# Altium schematic symbol library Schlib1.SchLib: 30 symbols
Pins are listed as number, name and electrical type; pins without a type are passive.

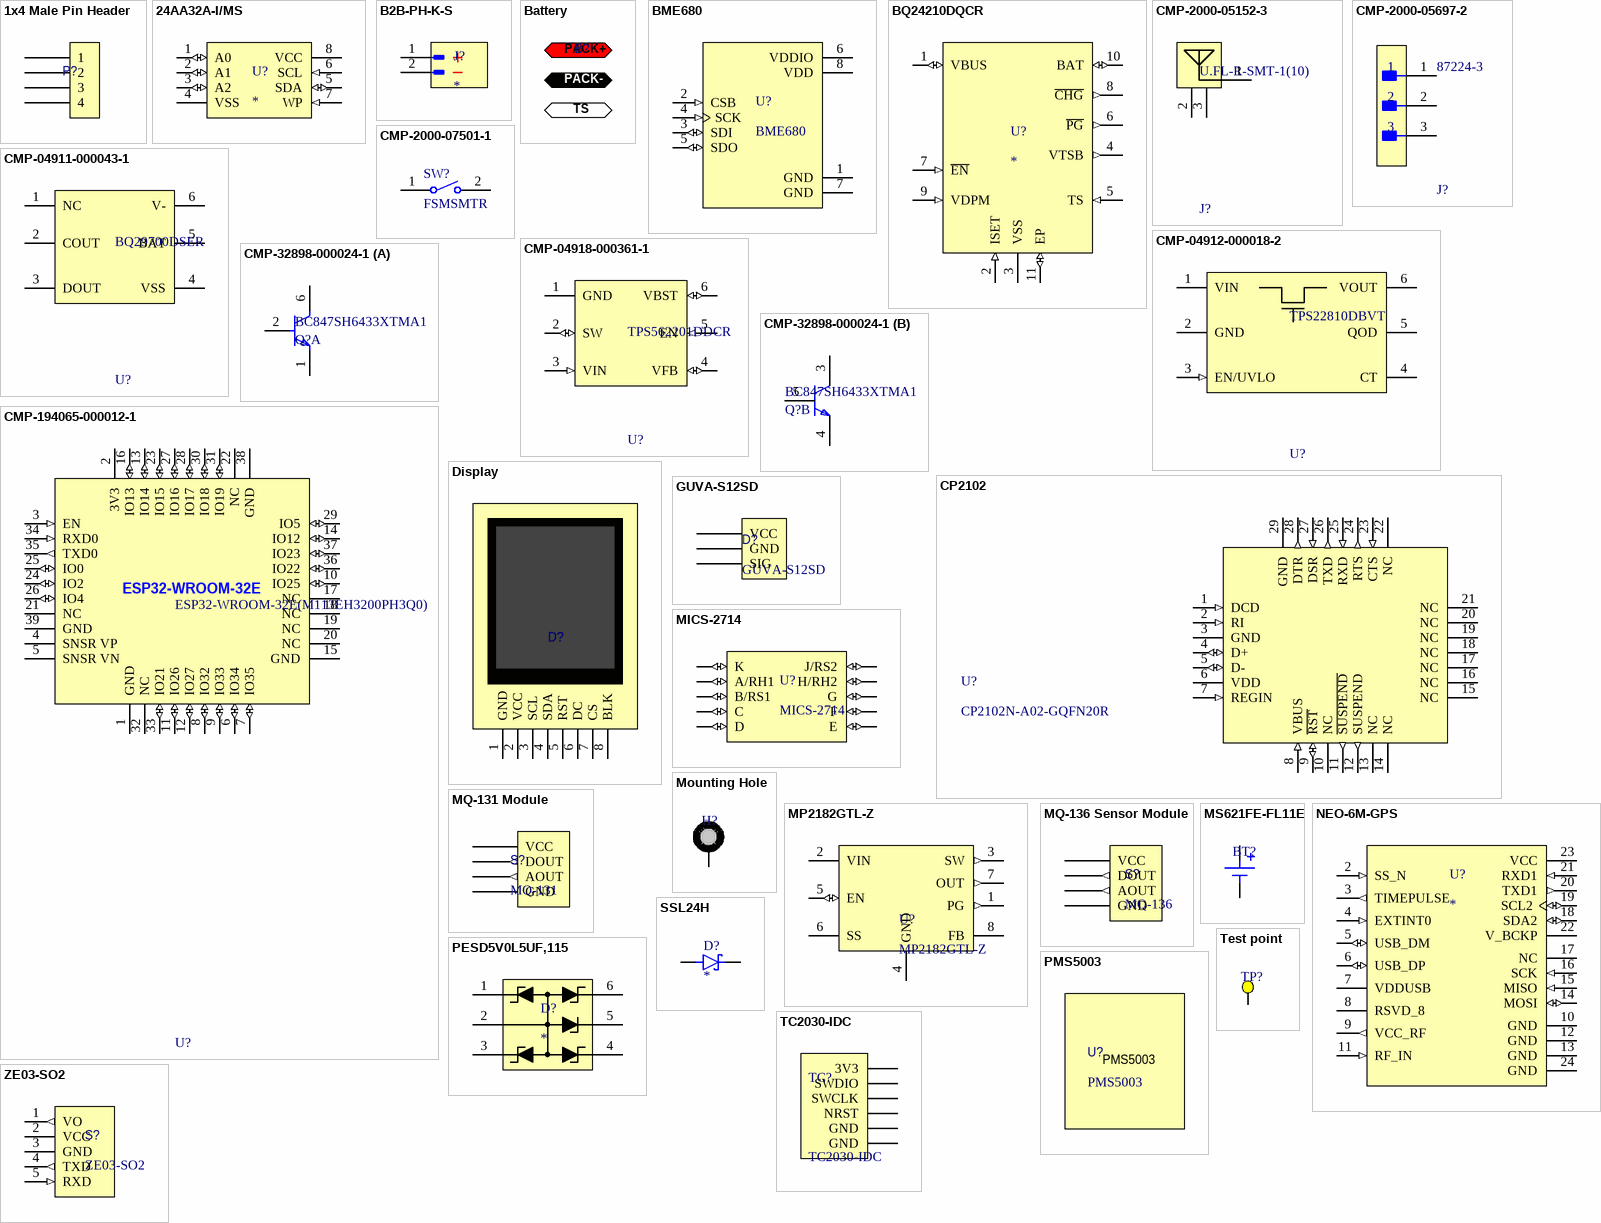
[diagram p0: symbols 1x4 Male Pin Header to ZE03-SO2]

## 1x4 Male Pin Header
designator P?, comment Pin Header  (value not drawn)
1x4 Male Pin Header
footprint 1x4 Pin Header Male
pins: 1, 2, 3, 4

## 24AA32A-I/MS
designator U?
MF: {'manufacturer': u'Microchip Technology'}; MP: 24AA32A-I/MS; Package: None; Price: None; Value: *; Availability: Unavailable
footprint SOP65P490X110-8N
pins: 1 A0 (io), 2 A1 (io), 3 A2 (io), 4 VSS (power), 5 SDA (io), 6 SCL (in), 7 WP (in), 8 VCC (power)

## B2B-PH-K-S
designator J?
MF: {'manufacturer': u'JST Sales'}; MP: B2B-PH-K-S; Package: None; Price: None; Value: *; Availability: Unavailable
footprint JST_B2B-PH-K-S
pins: 1, 2

## Battery
designator B?
1000 mAh
footprint 1000 mAh battery
pins: ?1, ?2, ?3
text: PACK+; PACK-; TS

## BME680
designator U?
Gas, Humidity, Pressure, Temperature Sensor I2C, SPI Output; MF: {'manufacturer': u'Bosch Sensortec'}; Package: None; Price: None; Value: *; MP: BME680; Availability: Unavailable
footprint PSON80P300X300X100-8N
pins: 1 GND (power), 2 CSB (in), 3 SDI (io), 4 SCK (in), 5 SDO (io), 6 VDDIO (power), 7 GND (power), 8 VDD (power)

## BQ24210DQCR
designator U?
MF: {'manufacturer': u'Texas Instruments'}; MP: BQ24210DQCR; Package: None; Price: None; Value: *; Availability: Unavailable
footprint SON50P300X200X80-11N
pins: 1 VBUS (io), 2 ISET (in), 3 VSS (power), 4 VTSB (out), 5 TS (in), 6 ~{PG} (out), 7 ~{EN} (in), 8 ~{CHG} (out), 9 VDPM (in), 10 BAT (io), 11 EP (io)

## CMP-2000-05152-3
designator J?, comment U.FL-R-SMT-1(10)
CONN U.FL RCPT STR 50 OHM SMD; Max Frequency: 6GHz; Connector Type: Coaxial; Body Plating: Silver; Body Material: Bronze; Impedance: 50R; Dielectric Material: Polymer; Insulation Resistance: 500MR; Gender: Male; Packaging: Cut Tape; Length: 3mm; Package Quantity: 2500; Termination: Solder; Lead Free: Lead Free; Series: U.FL; Min Operating Temperature: -40°C; Fastening Type: Snap; Contact Material: Brass; Orientation: Straight; Wire/Cable Type: Coaxial; Frequency: 6GHz; Contact Plating: Gold; Depth: 3.1mm; Weight: 0.001764oz; Max Operating Temperature: 90°C; Radiation Hardening: No; REACH SVHC: No SVHC; Mount: Surface Mount; Housing Color: Beige
footprint FP-U_FL-R-SMT-1_10-MFG
pins: 1 SIG, 2 GND (power), 3 GND (power)

## CMP-2000-05697-2
designator J?, comment 87224-3
CONN HEADER VERT 3POS 2.54MM; Number of Positions: 3; Gasket: No (Without); High Speed Serial Data Connector: No; Current Rating: 3A; Contact Post Length: 0.125inch; PCB Thickness: 1.397mm; PCB Mount Retention: Without; Connector Type: Plug; Approvals: CSA; PCB Mounting Orientation: Vertical; Pitch: 2.54mm; Mating Alignment: No (Without); Housing Color: Black; Contact Gender: Male; Length: 7.21mm; Max Operating Temperature: 105°C; Strain Relief: No (Without); Contact Material: Bronze; Row Spacing: 2.54mm; Series: AMPMODU MOD II; Board Standoff: No (Without); Package Quantity: 520; Radiation Hardening: No; Contact Protection: No (Without); Stabilizers: No (Without); Number of Rows: 1; Contact Mating Length: 8.08mm; Contact Shape: Square; Depth: 2.54mm; Contact Current Rating: 3A; Flammability Rating: UL94 V-0; Packaging: Carton; Number of Contacts: 3; Orientation: Straight; Mount: Through Hole; Keyed: No; Contact Type: Male Pin; Housing Material: Thermoplastic; High Temperature Housing: No; ELV: Compliant; Contact Plating: Gold; Termination: Through Hole; Selectively Loaded: No (Without); Lead Free: Lead Free; Min Operating Temperature: -65°C; Mating Connector Lock: No (Without); Color: Black; RoHS Compliant: Yes
footprint FP-87224-3-MFG
pins: 1, 2, 3

## CMP-2000-07501-1
designator SW?, comment FSMSMTR
FSMSM Push Button Switch, 50 mA, -35 to 85 degC, 2-Pin SMD, RoHS, Tape and Reel; Manufacturer: TE Connectivity; Voltage Rating (DC): 24V; Electrical Life: 20000Cycles; Operating Force: 180gf; Switch Travel: 0.25mm; Contact Current Rating: 50mA; Case\/Package: SMD/SMT; Actuator Length: 1.07mm; Throw Configuration: SPST; Actuator Material: Polyamide; Contact Resistance: 100mOhm; Illumination Type: Illuminated; Max Voltage Rating (DC): 12V; Manufacturer URL: http://www.te.com/; Lead Free: LeadFree; Packaging: TapeandReel; Min Operating Temperature: -35degC; Mechanical Life: 20000Cycles; Mount: SurfaceMount; REACH SVHC: Unknown; Package Quantity: 1800; Package Reference: FSMSMTR; RoHSCompliant: true; Max Operating Temperature: 85degC; Orientation: Straight; ELV: Compliant; Datasheet URL: http://www.te.com/commerce/DocumentDelivery/DDEController?Action=showdoc&DocId=Customer+Drawing%7F1437566-3%7FC2%7Fpdf%7FEnglish%7FENG_CD_1437566-3_C2_1437566_3_1_c.dwg.pdf%7F1437566-4; Package Description: 2-Pin Surface Mount Device, Body 6 x 3.5 mm, Pitch 9.19 mm; Current Rating: 50mA; Contact Plating: Silver; Termination: GullWing; Datasheet Version: Rev. C2, 08/2014; Contact Material: Brass; Mounting Technology: SurfaceMount
footprint TECO-FSMSMTR_V (SMD, 2-Leads, Body 6x3.5mm, Pitch 9.19mm)
pins: 1, 2

## CMP-04911-000043-1
designator U?, comment BQ29700DSER
IC LITHIUM BATT PROTECT 6-SON; Number of Cells: 1; Fault Protection: Over Current; Operating Supply Voltage: 8V; Packaging: Tape and Reel; RoHS Compliant: Yes; Contact Plating: Gold; Lead Free: Lead Free; Min Operating Temperature: -40°C; Number of Pins: 6; Max Operating Temperature: 85°C; Package Quantity: 3000; Mount: Surface Mount; Weight: 0.000342oz
footprint FP-DSE0006A-IPC_A
pins: 1 NC, 2 COUT, 3 DOUT, 4 VSS (power), 5 BAT (power), 6 V-

## CMP-04912-000018-2
designator U?, comment TPS22810DBVT
IC PWR SWITCH N-CHAN 1:1 SOT23-6; Output Configuration: High Side; Interface: On/Off; Number of Outputs: 1; Max Output Current: 2A; Fault Protection: Over Temperature; Min Operating Temperature: -40°C; Packaging: Cut Tape; Max Operating Temperature: 105°C; Case/Package: SOT-23-6; Number of Channels: 1
footprint FP-DBV0006A-IPC_A
pins: 1 VIN (power), 2 GND (power), 3 EN/UVLO (in), 4 CT, 5 QOD, 6 VOUT

## CMP-04918-000361-1
designator U?, comment TPS562201DDCR
IC REG BUCK ADJ 2A TSOT23-6; Switching Frequency: 580kHz; Max Input Voltage: 17V; Number of Outputs: 1; Output Voltage: 7V; Output Type: Adjustable; Quiescent Current: 400uA; Min Input Voltage: 4.5V; Mount: Surface Mount; Max Operating Temperature: 125°C; Lead Free: Lead Free; Operating Supply Voltage: 17V; Number of Pins: 6; RoHS Compliant: Yes; Contact Plating: Tin; Min Operating Temperature: -40°C; Case/Package: SOT; Max Output Current: 2A
footprint FP-DDC0006A-IPC_A
pins: 1 GND (power), 2 SW (io), 3 VIN (in), 4 VFB (io), 5 EN (in), 6 VBST (io)

## CMP-32898-000024-1
designator Q?, comment BC847SH6433XTMA1
TRANS 2NPN 45V 0.1A SOT363; Collector-emitter Voltage-Max: 600mV; Max Collector Current: 100mA; Polarity: NPN; Emitter Base Voltage (VEBO): 6V; Max Power Dissipation: 250mW; Transition Frequency: 250MHz; Collector Base Voltage (VCBO): 50V; Number of Elements: 2; RoHS Compliant: Yes; Max Breakdown Voltage: 45V; Contact Plating: Tin; Package Quantity: 10000; Series: -; Case/Package: SOT-363-6; Height: 0.8mm; Number of Pins: 6; Collector Emitter Voltage (VCEO): 45V; Radiation Hardening: No; Packaging: Tape and Reel; Frequency: 250MHz; Mount: Surface Mount; Collector Emitter Saturation Voltage: 600mV; Min Operating Temperature: -65°C; Max Frequency: 250MHz; Width: 1.25mm; Length: 2mm; Collector Emitter Breakdown Voltage: 45V; Max Operating Temperature: 150°C; Power Dissipation: 250mW
footprint FP-PG-SOT363-6-IPC_A
part A pins: 1 E1, 2 B1, 6 C1
part B pins: 3 C2, 4 E2, 5 B2

## CMP-194065-000012-1
designator U?, comment ESP32-WROOM-32E(M113EH3200PH3Q0)
RX TXRX MOD WIFI TRACE ANT SMD; Supplier 1: Digikey; Supplier Part Number 1: 1904-ESP32-WROOM-32E(M113EH3200PH3Q0)TR-ND
footprint FP-ESP32-WROOM-32E_M113EH-MFG
pins: 1 GND (power), 2 3V3 (power), 3 EN (in), 4 SNSR VP, 5 SNSR VN, 6 IO34 (io), 7 IO35 (io), 8 IO32 (io), 9 IO33 (io), 10 IO25 (io), 11 IO26 (io), 12 IO27 (io), 13 IO14 (io), 14 IO12 (io), 15 GND (power), 16 IO13 (io), 17 NC, 18 NC, 19 NC, 20 NC, 21 NC, 22 NC, 23 IO15 (io), 24 IO2 (io), 25 IO0 (io), 26 IO4 (io), 27 IO16 (io), 28 IO17 (io), 29 IO5 (io), 30 IO18 (io), 31 IO19 (io), 32 NC, 33 IO21 (io), 34 RXD0 (in), 35 TXD0 (out), 36 IO22 (io), 37 IO23 (io), 38 GND (power), 39 GND (power)
text: ESP32-WROOM-32E

## CP2102
designator U?, comment CP2102N-A02-GQFN20R
USB Bridge, USB to UART USB 2.0 UART Interface 20-QFN (3x3); MF: {'manufacturer': u'Silicon Labs'}; MP: CP2102; Package: None; Price: None; Value: *; Availability: Unavailable; Supplier 1: Digikey; Supplier Part Number 1: 336-5886-1-ND
footprint QFN50P500X500X100-29N
pins: 1 DCD (in), 2 RI (in), 3 GND (power), 4 D+ (io), 5 D- (io), 6 VDD (power), 7 REGIN (in), 8 VBUS (in), 9 ~{RST} (io), 10 NC, 11 ~{SUSPEND} (out), 12 SUSPEND (out), 13 NC, 14 NC, 15 NC, 16 NC, 17 NC, 18 NC, 19 NC, 20 NC, 21 NC, 22 NC, 23 CTS (in), 24 RTS (out), 25 RXD (in), 26 TXD (out), 27 DSR (in), 28 DTR (out), 29 GND (power)

## Display
designator D?, comment 1.54 Inch TFT  (value not drawn)
1.54 inch TFT Display 1.54" LCD Screen Module 240*240 240x240 SPI interface ST7789 Driver Board; ComponentLink1Description: Robotistan; ComponentLink1URL: https://www.aliexpress.us/item/3256803622674686.html?gatewayAdapt=glo2usa4itemAdapt
footprint 1.54 Inch Display
pins: 1 GND, 2 VCC, 3 SCL, 4 SDA, 5 RST, 6 DC, 7 CS, 8 BLK

## GUVA-S12SD
designator D?
Photodiode 2-SMD, J-Lead; Manufacturer: Genicom Co., Ltd.; Color - Enhanced: Ultraviolet (UV); Spectral Range: 240nm ~ 370nm; Diode Type: Schottky; Responsivity @ nm: 0.14 A/W @ 350nm; Voltage - DC Reverse (Vr) (Max): 5 V; Manufacturer Product Number: GUVA-S12SD; DigiKey Part Number: 2096-GUVA-S12SDTR-ND; Operating Temperature: -30°C ~ 85°C; Supplier 1: Digikey; Supplier Part Number 1: 2096-GUVA-S12SDCT-ND
footprint GUVA-S12SD (SENSOR PHOTODIODE 2SMD)
pins: 1 VCC, 2 GND, 3 SIG

## MICS-2714
designator U?
Gas sensor for Nitrogen Dioxide; MF: sgx sensors; SnapEDA_Link: https://www.snapeda.com/parts/MICS-2714/Sensata-BEI+Sensors/view-part/?ref=snap; Package: None; Value: *; MP: MICS-2714; Check_prices: https://www.snapeda.com/parts/MICS-2714/Sensata-BEI+Sensors/view-part/?ref=eda
footprint MICS-SMD10
pins: A A/RH1 (io), B B/RS1 (io), C (io), D (io), E (io), F (io), G (io), H H/RH2 (io), J J/RS2 (io), K (io)

## Mounting Hole
designator H?  (value not drawn)
footprint Mounting Hole
pins: 1

## MP2182GTL-Z
designator U?
Buck Switching Regulator IC Positive Adjustable 0.6V 1 Output 2A SOT-583; Mfr_Name: Monolithic Power Systems; RefDes: RefDes; Type: Type; Supplier 1: Mouser; Supplier Part Number 1: 946-MP2182GTL-Z
footprint SOT583_MP2182_MNP
pins: 1 PG (out), 2 VIN (power), 3 SW (out), 4 GND (power), 5 EN (io), 6 SS, 7 OUT (out), 8 FB

## MQ-131 Module
designator S?, comment MQ-131
MQ-131 Sensor Module
footprint MQ-131 Sensor Module
pins: 1 VCC (power), 2 DOUT (out), 3 AOUT (out), 4 GND

## MQ-136 Sensor Module
designator S?, comment MQ-136
They are used in air quality control equipments for buildings/offices, are suitable for detecting Of H2S; ComponentLink1Description: Datasheet; ComponentLink1URL: https://www.sensorica.ru/pdf/MQ-136.pdf
footprint MQ-136 Sensor Module
pins: 1 VCC (power), 2 DOUT (out), 3 AOUT (out), 4 GND

## MS621FE-FL11E
designator BT?  (value not drawn)
MF: {'manufacturer': u'Seiko Instruments'}; MP: MS621FE-FL11E; Package: None; Price: None; Value: *; Availability: Unavailable
footprint BAT_MS621FE-FL11E
pins: NEG, POS

## NEO-6M-GPS
designator U?
MF: {'manufacturer': u'u-blox'}; MP: NEO-6M-GPS; Package: None; Price: None; Value: *; Availability: Unavailable
footprint XCVR_NEO-6M-GPS
pins: 2 SS_N (in), 3 TIMEPULSE (out), 4 EXTINT0 (in), 5 USB_DM (io), 6 USB_DP (io), 7 VDDUSB (power), 8 RSVD_8, 9 VCC_RF (out), 10 GND (power), 11 RF_IN (in), 12 GND (power), 13 GND (power), 14 MOSI (io), 15 MISO (in), 16 SCK (in), 17 NC, 18 SDA2 (io), 19 SCL2 (io), 20 TXD1 (out), 21 RXD1 (in), 22 V_BCKP (power), 23 VCC (power), 24 GND (power)

## PESD5V0L5UF,115
designator D?
MF: {'manufacturer': u'Nexperia'}; MP: PESD5V0L5UF,115; Package: None; Price: None; Value: *; Availability: Unavailable
footprint PSON50P145X100X54-6N
pins: 1, 2, 3, 4, 5, 6

## PMS5003
designator U?
https://www.digikey.jp/htmldatasheets/production/2903006/0/0/1/pms5003-series-manual.html; ComponentLink1Description: Datasheet; ComponentLink1URL: https://www.digikey.jp/htmldatasheets/production/2903006/0/0/1/pms5003-series-manual.html; ComponentLink2Description: Aliexpress; ComponentLink2URL: https://www.aliexpress.us/item/3256807822458152.html?spm=a2g0o.productlist.main.60.4b8fNUQyNUQy52&algo_pvid=2deb0116-e99d-425f-a30d-91481a4c641d&algo_exp_id=2deb0116-e99d-425f-a30d-91481a4c641d-59&pdp_npi=4%40dis%21USD%2131.60%2117.06%21%21%2131.60%2117.06%21%40214100f417387717191071421e98ae%2112000043239638590%21sea%21US%210%21ABX&curPageLogUid=VbXrtimZczFz&utparam-url=scene%3Asearch%7Cquery_from%3A
footprint PMS5003

## SSL24H
designator D?
MF: {'manufacturer': u'Taiwan Semiconductor'}; MP: SSL24H; Package: None; Price: None; Value: *; Availability: Unavailable
footprint DIO_SSL24H
pins: A, C K

## TC2030-IDC
designator TC?
PLUG-OF-NAILS 6-PIN W/ LEGS 8; MF: Tag-Connect LLC; SnapEDA_Link: https://www.snapeda.com/parts/TC2030-IDC/Tag-Connect/view-part/?ref=snap; Package: None; MP: TC2030-IDC; Check_prices: https://www.snapeda.com/parts/TC2030-IDC/Tag-Connect/view-part/?ref=eda; Value: *
footprint TC2030-IDC
pins: 1 SWDIO, 2 GND, 3 SWCLK, 4 GND, 5 NRST, 6 3V3

## Test point
designator TP?  (value not drawn)
1mm x 1mm round pad for testing purposes
footprint Test point
pins: 1

## ZE03-SO2
designator S?
Portable and fixed gas detector, various gas detection equipment and situation.
footprint ZE03-SO2
pins: 1 VO (out), 2 VCC, 3 GND, 4 TXD (out), 5 RXD (in)